# Altium schematic symbol library Diode_Photo.Schlib: 1 symbol
Pins are listed as number, name and electrical type; pins without a type are passive.

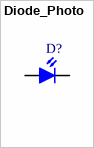
[diagram p0: symbol Diode_Photo]

## Diode_Photo
designator D?
Photo diode
pins: A, C